# Altium footprint library CustomComponentsLibrary.PcbLib: 23 footprints (part 2 of 2)
Each footprint in its own frame and in the unit in brackets; x right, y up, seen from the top. Pads: shape width x height; smd on the part's side, far side on the other; paste and mask are expansions set on the pad; w line width, h text height; cw(c..) or ccw(c..) is an arc to the next point about the centre after c.
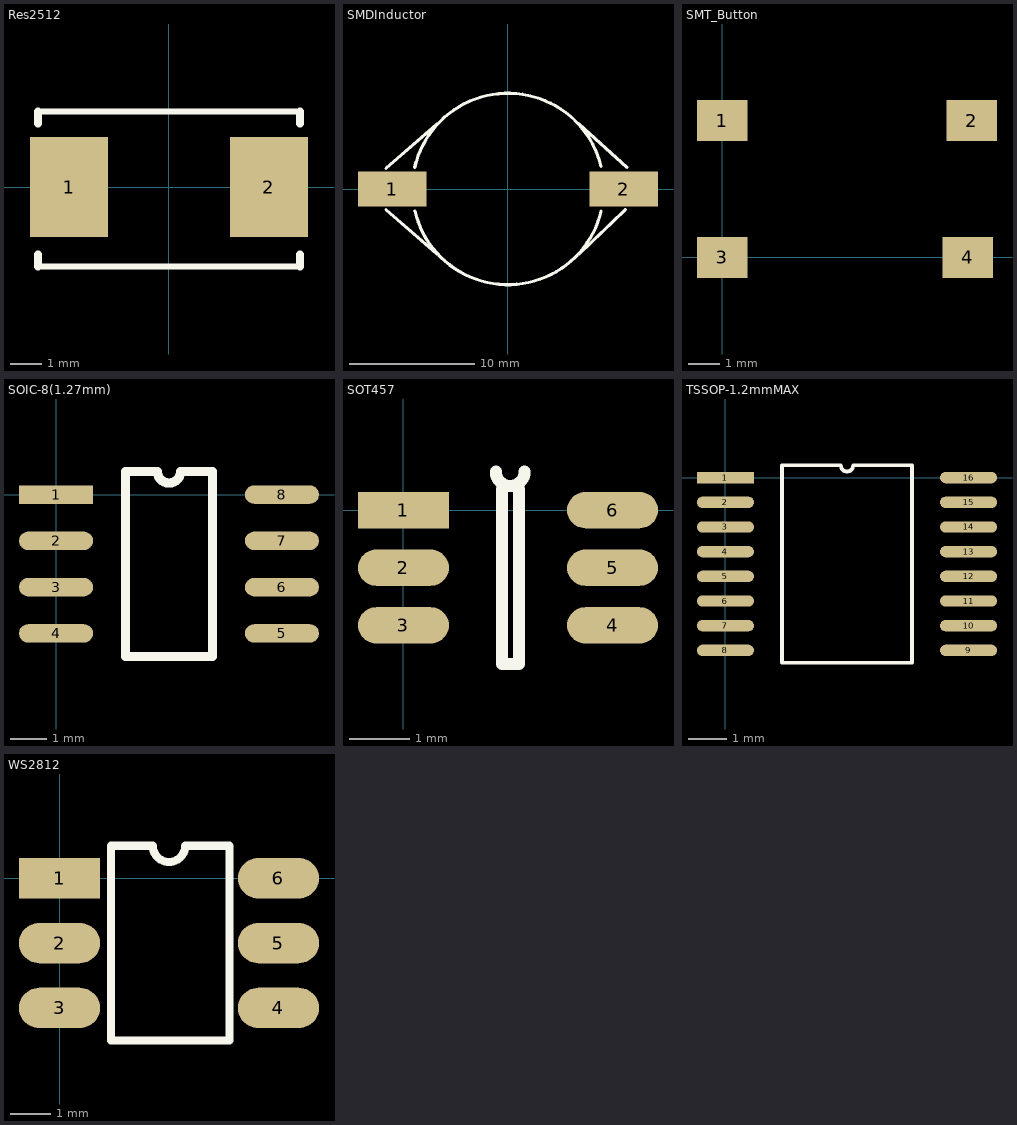
[diagram p1: the footprints below, top view; thin cyan lines are the x and y axes]

## Res2512 [mm]
pads (2):
  rect 2.5x3.2 smd: 1(-3.2,0) 2(3.2,0)
Top Overlay:
  lines w0.2: -4.191,-2.54 4.191,-2.54 ; -4.191,2.413 4.191,2.413
  lines w0.254: -4.191,-2.54 -4.191,-2.159 ; -4.191,2.032 -4.191,2.413 ; 4.191,-2.54 4.191,-2.159 ; 4.191,2.032 4.191,2.413

## SMDInductor [mm]
pads (2):
  rect 5.5x2.79 smd: 1(-9.27,0) 2(9.27,0)
Top Overlay:
  lines w0.254: -9.779,-1.651 -5.715,-5.207 ; -9.779,1.651 -5.715,5.207 ; -7.473,1.744 cw(c0,0) 7.459,1.805 ; -7.466,-1.765 ccw(c0,0) 7.462,-1.781 ; 5.715,-5.207 9.398,-1.651 ; 5.715,5.207 9.525,1.744

## SMT_Button [mm]
pads (4):
  rect 1.6x1.3 smd: 1(0,4.318) 2(7.874,4.318) 3(0,0) 4(7.747,0)
3D body: height 4.3, standoff 0, extent -0.762,-0.635 8.636,4.953

## SOIC-8(1.27mm) [mil]
pads (8):
  rect 80x20 smd: 1(0,0)
  oval 80x20 smd: 2(0,-50) 3(0,-100) 4(0,-150) 5(244,-150) 6(244,-100) 7(244,-50) 8(244,0)
Top Overlay:
  lines w10: 75,-175 169,-175 169,25 134.5,25 cw(c122,25) 109.5,25 75,25 75,-175

## SOT457 [mm]
pads (6):
  rect 1.5x0.6 smd: 1(0,0)
  oval 1.5x0.6 smd: 2(0,-0.95) 3(0,-1.9) 4(3.45,-1.9) 5(3.45,-0.95) 6(3.45,0)
Top Overlay:
  lines w0.2: 1.524,0.635 ccw(c1.762,0.635) 1.999,0.635 ; 1.625,0.348 1.625,-2.54 1.905,-2.54 1.905,0.348

## TSSOP-1.2mmMAX [mm]
pads (16):
  rect 1.5x0.3 smd: 1(0,0)
  oval 1.5x0.3 smd: 2(0,-0.65) 3(0,-1.3) 4(0,-1.95) 5(0,-2.6) 6(0,-3.25) 7(0,-3.9) 8(0,-4.55) 9(6.4,-4.55) 10(6.4,-3.9) 11(6.4,-3.25) 12(6.4,-2.6) 13(6.4,-1.95) 14(6.4,-1.3) 15(6.4,-0.65) 16(6.4,0)
Top Overlay:
  lines w0.1: 1.485,-4.875 1.485,0.325 3.037,0.325 ccw(c3.2,0.325) 3.362,0.325 4.915,0.325 4.915,-4.875 1.485,-4.875
3D body: height 1.2, standoff 0.15, extent 1.143,-4.826 5.207,0.381

## WS2812 [mm]
pads (6):
  rect 2x1 smd: 1(0,0)
  oval 2x1 smd: 2(0,-1.6) 3(0,-3.2) 4(5.4,-3.2) 5(5.4,-1.6) 6(5.4,0)
Top Overlay:
  lines w0.2: 1.27,-4 4.191,-4 4.191,0.8 3.1,0.8 cw(c2.7,0.8) 2.3,0.8 2.043,0.8 1.528,0.8 1.27,0.8 1.27,-4
3D body: height 2, standoff 0, extent 0,-4.064 5.461,0.889